# EAGLE library part EPF10K250-BGA600 (library altera)
EPF10K250 FLEX 10K family
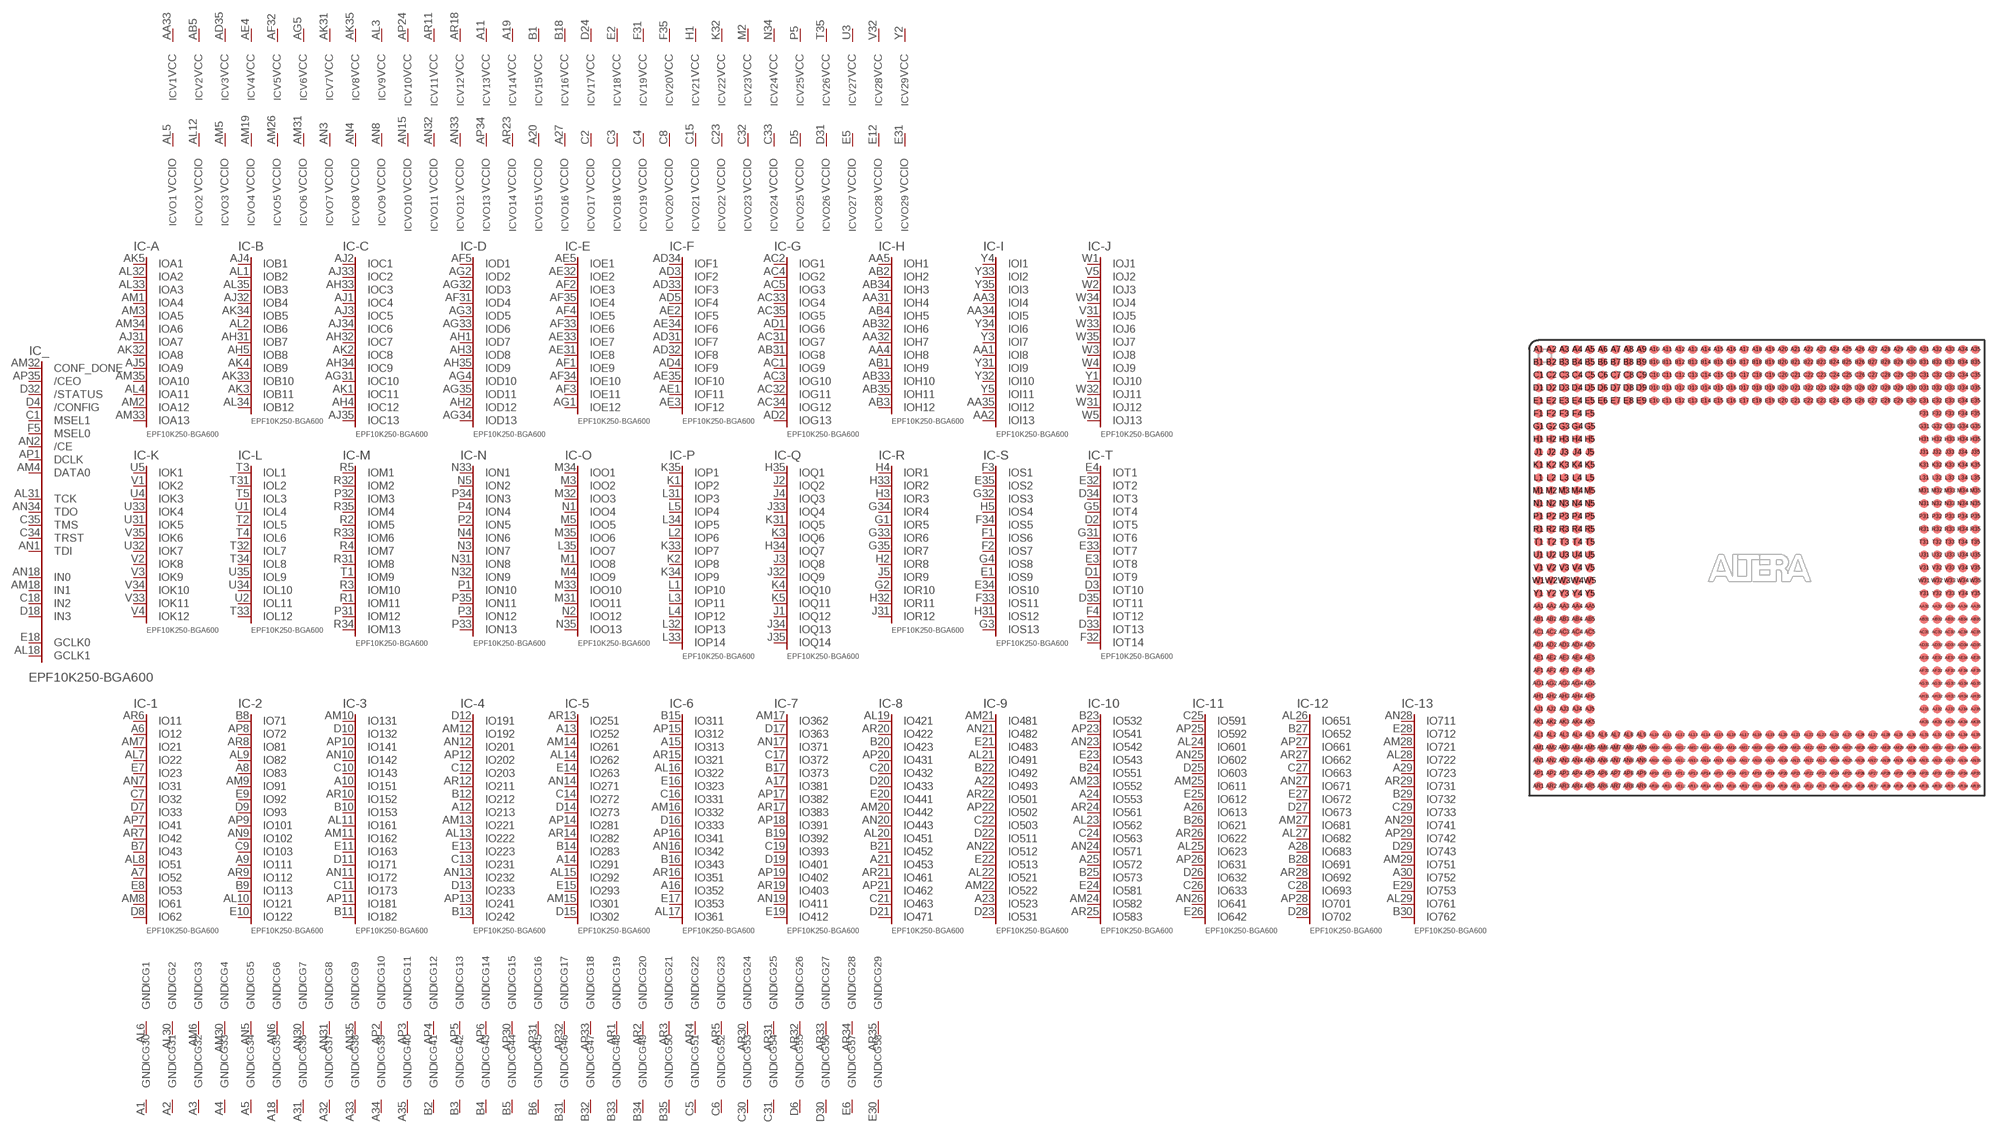
[diagram p32: symbol with the pads of BGA600; footprint BGA600]

Designator prefix IC; gates _=K240C -A=A13-600 -B=B12-600 -C=C13-600 -D=D13-600 -E=E12-600 -F=F12-600 -G=G13-600 -H=H12-600 -I=I13-600 -J=J13-600 -K=K12-600 -L=L12-600 -M=M13-600 -N=N13-600 -O=O13-600 -P=P14-600 -Q=Q14-600 -R=R12-600 -S=S13-600 -T=T14-600 -1=62-600 -2=122-600 -3=182-600 -4=242-600 -5=302-600 -6=361-600 -7=412-600 -8=471-600 -9=531-600 -10=583-600 -11=642-600 -12=702-600 -13=762-600 G1=GND G2=GND G3=GND G4=GND G5=GND G6=GND G7=GND G8=GND G9=GND G10=GND G11=GND G12=GND G13=GND G14=GND G15=GND G16=GND G17=GND G18=GND G19=GND G20=GND G21=GND G22=GND G23=GND G24=GND G25=GND G26=GND G27=GND G28=GND G29=GND G30=GND G31=GND G32=GND G33=GND G34=GND G35=GND G36=GND G37=GND G38=GND G39=GND G40=GND G41=GND G42=GND G43=GND G44=GND G45=GND G46=GND G47=GND G48=GND G49=GND G50=GND G51=GND G52=GND G53=GND G54=GND G55=GND G56=GND G57=GND G58=GND V1=VCCINT V2=VCCINT V3=VCCINT V4=VCCINT V5=VCCINT V6=VCCINT V7=VCCINT V8=VCCINT V9=VCCINT V10=VCCINT V11=VCCINT V12=VCCINT V13=VCCINT V14=VCCINT V15=VCCINT V16=VCCINT V17=VCCINT V18=VCCINT V19=VCCINT V20=VCCINT V21=VCCINT V22=VCCINT V23=VCCINT V24=VCCINT V25=VCCINT V26=VCCINT V27=VCCINT V28=VCCINT V29=VCCINT VO1=VCCIO VO2=VCCIO VO3=VCCIO VO4=VCCIO VO5=VCCIO VO6=VCCIO VO7=VCCIO VO8=VCCIO VO9=VCCIO VO10=VCCIO VO11=VCCIO VO12=VCCIO VO13=VCCIO VO14=VCCIO VO15=VCCIO VO16=VCCIO VO17=VCCIO VO18=VCCIO VO19=VCCIO VO20=VCCIO VO21=VCCIO VO22=VCCIO VO23=VCCIO VO24=VCCIO VO25=VCCIO VO26=VCCIO VO27=VCCIO VO28=VCCIO VO29=VCCIO

## EPF10K250-BGA600 (OC_FARNELL: unknown; OC_NEWARK: unknown)  [BGA600]
A1  G30:GND  pwr
A2  G31:GND  pwr
A3  G32:GND  pwr
A4  G33:GND  pwr
A5  G34:GND  pwr
A6  -1:IO12
A7  -1:IO52
A8  -2:IO83
A9  -2:IO111
A10  -3:IO151
A11  V13:VCC  pwr
A12  -4:IO213
A13  -5:IO252
A14  -5:IO291
A15  -6:IO313
A16  -6:IO352
A17  -7:IO381
A18  G35:GND  pwr
A19  V14:VCC  pwr
A20  VO15:VCCIO  pwr
A21  -8:IO453
A22  -9:IO493
A23  -9:IO523
A24  -10:IO553
A25  -10:IO572
A26  -11:IO613
A27  VO16:VCCIO  pwr
A28  -12:IO683
A29  -13:IO723
A30  -13:IO752
A31  G36:GND  pwr
A32  G37:GND  pwr
A33  G38:GND  pwr
A34  G39:GND  pwr
A35  G40:GND  pwr
AA1  -I:IOI8
AA2  -I:IOI13
AA3  -I:IOI4
AA4  -H:IOH8
AA5  -H:IOH1
AA31  -H:IOH4
AA32  -H:IOH7
AA33  V1:VCC  pwr
AA34  -I:IOI5
AA35  -I:IOI12
AB1  -H:IOH9
AB2  -H:IOH2
AB3  -H:IOH12
AB4  -H:IOH5
AB5  V2:VCC  pwr
AB31  -G:IOG8
AB32  -H:IOH6
AB33  -H:IOH10
AB34  -H:IOH3
AB35  -H:IOH11
AC1  -G:IOG9
AC2  -G:IOG1
AC3  -G:IOG10
AC4  -G:IOG2
AC5  -G:IOG3
AC31  -G:IOG7
AC32  -G:IOG11
AC33  -G:IOG4
AC34  -G:IOG12
AC35  -G:IOG5
AD1  -G:IOG6
AD2  -G:IOG13
AD3  -F:IOF2
AD4  -F:IOF9
AD5  -F:IOF4
AD31  -F:IOF7
AD32  -F:IOF8
AD33  -F:IOF3
AD34  -F:IOF1
AD35  V3:VCC  pwr
AE1  -F:IOF11
AE2  -F:IOF5
AE3  -F:IOF12
AE4  V4:VCC  pwr
AE5  -E:IOE1
AE31  -E:IOE8
AE32  -E:IOE2
AE33  -E:IOE7
AE34  -F:IOF6
AE35  -F:IOF10
AF1  -E:IOE9
AF2  -E:IOE3
AF3  -E:IOE11
AF4  -E:IOE5
AF5  -D:IOD1
AF31  -D:IOD4
AF32  V5:VCC  pwr
AF33  -E:IOE6
AF34  -E:IOE10
AF35  -E:IOE4
AG1  -E:IOE12
AG2  -D:IOD2
AG3  -D:IOD5
AG4  -D:IOD10
AG5  V6:VCC  pwr
AG31  -C:IOC10
AG32  -D:IOD3
AG33  -D:IOD6
AG34  -D:IOD13
AG35  -D:IOD11
AH1  -D:IOD7
AH2  -D:IOD12
AH3  -D:IOD8
AH4  -C:IOC12
AH5  -B:IOB8
AH31  -B:IOB7
AH32  -C:IOC7
AH33  -C:IOC3
AH34  -C:IOC9
AH35  -D:IOD9
AJ1  -C:IOC4
AJ2  -C:IOC1
AJ3  -C:IOC5
AJ4  -B:IOB1
AJ5  -A:IOA9
AJ31  -A:IOA7
AJ32  -B:IOB4
AJ33  -C:IOC2
AJ34  -C:IOC6
AJ35  -C:IOC13
AK1  -C:IOC11
AK2  -C:IOC8
AK3  -B:IOB11
AK4  -B:IOB9
AK5  -A:IOA1
AK31  V7:VCC  pwr
AK32  -A:IOA8
AK33  -B:IOB10
AK34  -B:IOB5
AK35  V8:VCC  pwr
AL1  -B:IOB2
AL2  -B:IOB6
AL3  V9:VCC  pwr
AL4  -A:IOA11
AL5  VO1:VCCIO  pwr
AL6  G1:GND  pwr
AL7  -1:IO22
AL8  -1:IO51
AL9  -2:IO82
AL10  -2:IO121
AL11  -3:IO161
AL12  VO2:VCCIO  pwr
AL13  -4:IO222
AL14  -5:IO262
AL15  -5:IO292
AL16  -6:IO322
AL17  -6:IO361
AL18  _:GCLK1  in
AL19  -8:IO421
AL20  -8:IO451
AL21  -9:IO491
AL22  -9:IO521
AL23  -10:IO562
AL24  -11:IO601
AL25  -11:IO623
AL26  -12:IO651
AL27  -12:IO682
AL28  -13:IO722
AL29  -13:IO761
AL30  G2:GND  pwr
AL31  _:TCK
AL32  -A:IOA2
AL33  -A:IOA3
AL34  -B:IOB12
AL35  -B:IOB3
AM1  -A:IOA4
AM2  -A:IOA12
AM3  -A:IOA5
AM4  _:DATA0  in
AM5  VO3:VCCIO  pwr
AM6  G3:GND  pwr
AM7  -1:IO21
AM8  -1:IO61
AM9  -2:IO91
AM10  -3:IO131
AM11  -3:IO162
AM12  -4:IO192
AM13  -4:IO221
AM14  -5:IO261
AM15  -5:IO301
AM16  -6:IO332
AM17  -7:IO362
AM18  _:IN1  in
AM19  VO4:VCCIO  pwr
AM20  -8:IO442
AM21  -9:IO481
AM22  -9:IO522
AM23  -10:IO552
AM24  -10:IO582
AM25  -11:IO611
AM26  VO5:VCCIO  pwr
AM27  -12:IO681
AM28  -13:IO721
AM29  -13:IO751
AM30  G4:GND  pwr
AM31  VO6:VCCIO  pwr
AM32  _:CONF_DONE  in
AM33  -A:IOA13
AM34  -A:IOA6
AM35  -A:IOA10
AN1  _:TDI
AN2  _:/CE  in
AN3  VO7:VCCIO  pwr
AN4  VO8:VCCIO  pwr
AN5  G5:GND  pwr
AN6  G6:GND  pwr
AN7  -1:IO31
AN8  VO9:VCCIO  pwr
AN9  -2:IO102
AN10  -3:IO142
AN11  -3:IO172
AN12  -4:IO201
AN13  -4:IO232
AN14  -5:IO271
AN15  VO10:VCCIO  pwr
AN16  -6:IO342
AN17  -7:IO371
AN18  _:IN0  in
AN19  -7:IO411
AN20  -8:IO443
AN21  -9:IO482
AN22  -9:IO512
AN23  -10:IO542
AN24  -10:IO571
AN25  -11:IO602
AN26  -11:IO641
AN27  -12:IO671
AN28  -13:IO711
AN29  -13:IO741
AN30  G7:GND  pwr
AN31  G8:GND  pwr
AN32  VO11:VCCIO  pwr
AN33  VO12:VCCIO  pwr
AN34  _:TDO
AN35  G9:GND  pwr
AP1  _:DCLK  in
AP2  G10:GND  pwr
AP3  G11:GND  pwr
AP4  G12:GND  pwr
AP5  G13:GND  pwr
AP6  G14:GND  pwr
AP7  -1:IO41
AP8  -2:IO72
AP9  -2:IO101
AP10  -3:IO141
AP11  -3:IO181
AP12  -4:IO202
AP13  -4:IO241
AP14  -5:IO281
AP15  -6:IO312
AP16  -6:IO341
AP17  -7:IO382
AP18  -7:IO391
AP19  -7:IO402
AP20  -8:IO431
AP21  -8:IO462
AP22  -9:IO502
AP23  -10:IO541
AP24  V10:VCC  pwr
AP25  -11:IO592
AP26  -11:IO631
AP27  -12:IO661
AP28  -12:IO701
AP29  -13:IO742
AP30  G15:GND  pwr
AP31  G16:GND  pwr
AP32  G17:GND  pwr
AP33  G18:GND  pwr
AP34  VO13:VCCIO  pwr
AP35  _:/CEO  in
AR1  G19:GND  pwr
AR2  G20:GND  pwr
AR3  G21:GND  pwr
AR4  G22:GND  pwr
AR5  G23:GND  pwr
AR6  -1:IO11
AR7  -1:IO42
AR8  -2:IO81
AR9  -2:IO112
AR10  -3:IO152
AR11  V11:VCC  pwr
AR12  -4:IO211
AR13  -5:IO251
AR14  -5:IO282
AR15  -6:IO321
AR16  -6:IO351
AR17  -7:IO383
AR18  V12:VCC  pwr
AR19  -7:IO403
AR20  -8:IO422
AR21  -8:IO461
AR22  -9:IO501
AR23  VO14:VCCIO  pwr
AR24  -10:IO561
AR25  -10:IO583
AR26  -11:IO622
AR27  -12:IO662
AR28  -12:IO692
AR29  -13:IO731
AR30  G24:GND  pwr
AR31  G25:GND  pwr
AR32  G26:GND  pwr
AR33  G27:GND  pwr
AR34  G28:GND  pwr
AR35  G29:GND  pwr
B1  V15:VCC  pwr
B2  G41:GND  pwr
B3  G42:GND  pwr
B4  G43:GND  pwr
B5  G44:GND  pwr
B6  G45:GND  pwr
B7  -1:IO43
B8  -2:IO71
B9  -2:IO113
B10  -3:IO153
B11  -3:IO182
B12  -4:IO212
B13  -4:IO242
B14  -5:IO283
B15  -6:IO311
B16  -6:IO343
B17  -7:IO373
B18  V16:VCC  pwr
B19  -7:IO392
B20  -8:IO423
B21  -8:IO452
B22  -9:IO492
B23  -10:IO532
B24  -10:IO551
B25  -10:IO573
B26  -11:IO621
B27  -12:IO652
B28  -12:IO691
B29  -13:IO732
B30  -13:IO762
B31  G46:GND  pwr
B32  G47:GND  pwr
B33  G48:GND  pwr
B34  G49:GND  pwr
B35  G50:GND  pwr
C1  _:MSEL1  in
C2  VO17:VCCIO  pwr
C3  VO18:VCCIO  pwr
C4  VO19:VCCIO  pwr
C5  G51:GND  pwr
C6  G52:GND  pwr
C7  -1:IO32
C8  VO20:VCCIO  pwr
C9  -2:IO103
C10  -3:IO143
C11  -3:IO173
C12  -4:IO203
C13  -4:IO231
C14  -5:IO272
C15  VO21:VCCIO  pwr
C16  -6:IO331
C17  -7:IO372
C18  _:IN2  in
C19  -7:IO393
C20  -8:IO432
C21  -8:IO463
C22  -9:IO503
C23  VO22:VCCIO  pwr
C24  -10:IO563
C25  -11:IO591
C26  -11:IO633
C27  -12:IO663
C28  -12:IO693
C29  -13:IO733
C30  G53:GND  pwr
C31  G54:GND  pwr
C32  VO23:VCCIO  pwr
C33  VO24:VCCIO  pwr
C34  _:TRST
C35  _:TMS
D1  -T:IOT9
D2  -T:IOT5
D3  -T:IOT10
D4  _:/CONFIG  in
D5  VO25:VCCIO  pwr
D6  G55:GND  pwr
D7  -1:IO33
D8  -1:IO62
D9  -2:IO93
D10  -3:IO132
D11  -3:IO171
D12  -4:IO191
D13  -4:IO233
D14  -5:IO273
D15  -5:IO302
D16  -6:IO333
D17  -7:IO363
D18  _:IN3  in
D19  -7:IO401
D20  -8:IO433
D21  -8:IO471
D22  -9:IO511
D23  -9:IO531
D24  V17:VCC  pwr
D25  -11:IO603
D26  -11:IO632
D27  -12:IO673
D28  -12:IO702
D29  -13:IO743
D30  G56:GND  pwr
D31  VO26:VCCIO  pwr
D32  _:/STATUS  in
D33  -T:IOT13
D34  -T:IOT3
D35  -T:IOT11
E1  -S:IOS9
E2  V18:VCC  pwr
E3  -T:IOT8
E4  -T:IOT1
E5  VO27:VCCIO  pwr
E6  G57:GND  pwr
E7  -1:IO23
E8  -1:IO53
E9  -2:IO92
E10  -2:IO122
E11  -3:IO163
E12  VO28:VCCIO  pwr
E13  -4:IO223
E14  -5:IO263
E15  -5:IO293
E16  -6:IO323
E17  -6:IO353
E18  _:GCLK0  in
E19  -7:IO412
E20  -8:IO441
E21  -9:IO483
E22  -9:IO513
E23  -10:IO543
E24  -10:IO581
E25  -11:IO612
E26  -11:IO642
E27  -12:IO672
E28  -13:IO712
E29  -13:IO753
E30  G58:GND  pwr
E31  VO29:VCCIO  pwr
E32  -T:IOT2
E33  -T:IOT7
E34  -S:IOS10
E35  -S:IOS2
F1  -S:IOS6
F2  -S:IOS7
F3  -S:IOS1
F4  -T:IOT12
F5  _:MSEL0  in
F31  V19:VCC  pwr
F32  -T:IOT14
F33  -S:IOS11
F34  -S:IOS5
F35  V20:VCC  pwr
G1  -R:IOR5
G2  -R:IOR10
G3  -S:IOS13
G4  -S:IOS8
G5  -T:IOT4
G31  -T:IOT6
G32  -S:IOS3
G33  -R:IOR6
G34  -R:IOR4
G35  -R:IOR7
H1  V21:VCC  pwr
H2  -R:IOR8
H3  -R:IOR3
H4  -R:IOR1
H5  -S:IOS4
H31  -S:IOS12
H32  -R:IOR11
H33  -R:IOR2
H34  -Q:IOQ7
H35  -Q:IOQ1
J1  -Q:IOQ12
J2  -Q:IOQ2
J3  -Q:IOQ8
J4  -Q:IOQ3
J5  -R:IOR9
J31  -R:IOR12
J32  -Q:IOQ9
J33  -Q:IOQ4
J34  -Q:IOQ13
J35  -Q:IOQ14
K1  -P:IOP2
K2  -P:IOP8
K3  -Q:IOQ6
K4  -Q:IOQ10
K5  -Q:IOQ11
K31  -Q:IOQ5
K32  V22:VCC  pwr
K33  -P:IOP7
K34  -P:IOP9
K35  -P:IOP1
L1  -P:IOP10
L2  -P:IOP6
L3  -P:IOP11
L4  -P:IOP12
L5  -P:IOP4
L31  -P:IOP3
L32  -P:IOP13
L33  -P:IOP14
L34  -P:IOP5
L35  -O:IOO7
M1  -O:IOO8
M2  V23:VCC  pwr
M3  -O:IOO2
M4  -O:IOO9
M5  -O:IOO5
M31  -O:IOO11
M32  -O:IOO3
M33  -O:IOO10
M34  -O:IOO1
M35  -O:IOO6
N1  -O:IOO4
N2  -O:IOO12
N3  -N:ION7
N4  -N:ION6
N5  -N:ION2
N31  -N:ION8
N32  -N:ION9
N33  -N:ION1
N34  V24:VCC  pwr
N35  -O:IOO13
P1  -N:ION10
P2  -N:ION5
P3  -N:ION12
P4  -N:ION4
P5  V25:VCC  pwr
P31  -M:IOM12
P32  -M:IOM3
P33  -N:ION13
P34  -N:ION3
P35  -N:ION11
R1  -M:IOM11
R2  -M:IOM5
R3  -M:IOM10
R4  -M:IOM7
R5  -M:IOM1
R31  -M:IOM8
R32  -M:IOM2
R33  -M:IOM6
R34  -M:IOM13
R35  -M:IOM4
T1  -M:IOM9
T2  -L:IOL5
T3  -L:IOL1
T4  -L:IOL6
T5  -L:IOL3
T31  -L:IOL2
T32  -L:IOL7
T33  -L:IOL12
T34  -L:IOL8
T35  V26:VCC  pwr
U1  -L:IOL4
U2  -L:IOL11
U3  V27:VCC  pwr
U4  -K:IOK3
U5  -K:IOK1
U31  -K:IOK5
U32  -K:IOK7
U33  -K:IOK4
U34  -L:IOL10
U35  -L:IOL9
V1  -K:IOK2
V2  -K:IOK8
V3  -K:IOK9
V4  -K:IOK12
V5  -J:IOJ2
V31  -J:IOJ5
V32  V28:VCC  pwr
V33  -K:IOK11
V34  -K:IOK10
V35  -K:IOK6
W1  -J:IOJ1
W2  -J:IOJ3
W3  -J:IOJ8
W4  -J:IOJ9
W5  -J:IOJ13
W31  -J:IOJ12
W32  -J:IOJ11
W33  -J:IOJ6
W34  -J:IOJ4
W35  -J:IOJ7
Y1  -J:IOJ10
Y2  V29:VCC  pwr
Y3  -I:IOI7
Y4  -I:IOI1
Y5  -I:IOI11
Y31  -I:IOI9
Y32  -I:IOI10
Y33  -I:IOI2
Y34  -I:IOI6
Y35  -I:IOI3

## Footprint BGA600 (pad centres in mm)
Ball Grid Array
smd 0.9 x 0.9: A1 -21.59,21.59; A2 -20.32,21.59; A3 -19.05,21.59; A4 -17.78,21.59; A5 -16.51,21.59; A6 -15.24,21.59; A7 -13.97,21.59; A8 -12.7,21.59; A9 -11.43,21.59; A10 -10.16,21.59; A11 -8.89,21.59; A12 -7.62,21.59; A13 -6.35,21.59; A14 -5.08,21.59; A15 -3.81,21.59; A16 -2.54,21.59; A17 -1.27,21.59; A18 0,21.59; A19 1.27,21.59; A20 2.54,21.59; A21 3.81,21.59; A22 5.08,21.59; A23 6.35,21.59; A24 7.62,21.59; A25 8.89,21.59; A26 10.16,21.59; A27 11.43,21.59; A28 12.7,21.59; A29 13.97,21.59; A30 15.24,21.59; A31 16.51,21.59; A32 17.78,21.59; A33 19.05,21.59; A34 20.32,21.59; A35 21.59,21.59; AA1 -21.59,-3.81; AA2 -20.32,-3.81; AA3 -19.05,-3.81; AA4 -17.78,-3.81; AA5 -16.51,-3.81; AA31 16.51,-3.81; AA32 17.78,-3.81; AA33 19.05,-3.81; AA34 20.32,-3.81; AA35 21.59,-3.81; AB1 -21.59,-5.08; AB2 -20.32,-5.08; AB3 -19.05,-5.08; AB4 -17.78,-5.08; AB5 -16.51,-5.08; AB31 16.51,-5.08; AB32 17.78,-5.08; AB33 19.05,-5.08; AB34 20.32,-5.08; AB35 21.59,-5.08; AC1 -21.59,-6.35; AC2 -20.32,-6.35; AC3 -19.05,-6.35; AC4 -17.78,-6.35; AC5 -16.51,-6.35; AC31 16.51,-6.35; AC32 17.78,-6.35; AC33 19.05,-6.35; AC34 20.32,-6.35; AC35 21.59,-6.35; AD1 -21.59,-7.62; AD2 -20.32,-7.62; AD3 -19.05,-7.62; AD4 -17.78,-7.62; AD5 -16.51,-7.62; AD31 16.51,-7.62; AD32 17.78,-7.62; AD33 19.05,-7.62; AD34 20.32,-7.62; AD35 21.59,-7.62; AE1 -21.59,-8.89; AE2 -20.32,-8.89; AE3 -19.05,-8.89; AE4 -17.78,-8.89; AE5 -16.51,-8.89; AE31 16.51,-8.89; AE32 17.78,-8.89; AE33 19.05,-8.89; AE34 20.32,-8.89; AE35 21.59,-8.89; AF1 -21.59,-10.16; AF2 -20.32,-10.16; AF3 -19.05,-10.16; AF4 -17.78,-10.16; AF5 -16.51,-10.16; AF31 16.51,-10.16; AF32 17.78,-10.16; AF33 19.05,-10.16; AF34 20.32,-10.16; AF35 21.59,-10.16; AG1 -21.59,-11.43; AG2 -20.32,-11.43; AG3 -19.05,-11.43; AG4 -17.78,-11.43; AG5 -16.51,-11.43; AG31 16.51,-11.43; AG32 17.78,-11.43; AG33 19.05,-11.43; AG34 20.32,-11.43; AG35 21.59,-11.43; AH1 -21.59,-12.7; AH2 -20.32,-12.7; AH3 -19.05,-12.7; AH4 -17.78,-12.7; AH5 -16.51,-12.7; AH31 16.51,-12.7; AH32 17.78,-12.7; AH33 19.05,-12.7; AH34 20.32,-12.7; AH35 21.59,-12.7; AJ1 -21.59,-13.97; AJ2 -20.32,-13.97; AJ3 -19.05,-13.97; AJ4 -17.78,-13.97; AJ5 -16.51,-13.97; AJ31 16.51,-13.97; AJ32 17.78,-13.97; AJ33 19.05,-13.97; AJ34 20.32,-13.97; AJ35 21.59,-13.97; AK1 -21.59,-15.24; AK2 -20.32,-15.24; AK3 -19.05,-15.24; AK4 -17.78,-15.24; AK5 -16.51,-15.24; AK31 16.51,-15.24; AK32 17.78,-15.24; AK33 19.05,-15.24; AK34 20.32,-15.24; AK35 21.59,-15.24; AL1 -21.59,-16.51; AL2 -20.32,-16.51; AL3 -19.05,-16.51; AL4 -17.78,-16.51; AL5 -16.51,-16.51; AL6 -15.24,-16.51; AL7 -13.97,-16.51; AL8 -12.7,-16.51; AL9 -11.43,-16.51; AL10 -10.16,-16.51; AL11 -8.89,-16.51; AL12 -7.62,-16.51; AL13 -6.35,-16.51; AL14 -5.08,-16.51; AL15 -3.81,-16.51; AL16 -2.54,-16.51; AL17 -1.27,-16.51; AL18 0,-16.51; AL19 1.27,-16.51; AL20 2.54,-16.51; AL21 3.81,-16.51; AL22 5.08,-16.51; AL23 6.35,-16.51; AL24 7.62,-16.51; AL25 8.89,-16.51; AL26 10.16,-16.51; AL27 11.43,-16.51; AL28 12.7,-16.51; AL29 13.97,-16.51; AL30 15.24,-16.51; AL31 16.51,-16.51; AL32 17.78,-16.51; AL33 19.05,-16.51; AL34 20.32,-16.51; AL35 21.59,-16.51; AM1 -21.59,-17.78; AM2 -20.32,-17.78; AM3 -19.05,-17.78; AM4 -17.78,-17.78; AM5 -16.51,-17.78; AM6 -15.24,-17.78; AM7 -13.97,-17.78; AM8 -12.7,-17.78; AM9 -11.43,-17.78; AM10 -10.16,-17.78; AM11 -8.89,-17.78; AM12 -7.62,-17.78; AM13 -6.35,-17.78; AM14 -5.08,-17.78; AM15 -3.81,-17.78; AM16 -2.54,-17.78; AM17 -1.27,-17.78; AM18 0,-17.78; AM19 1.27,-17.78; AM20 2.54,-17.78; AM21 3.81,-17.78; AM22 5.08,-17.78; AM23 6.35,-17.78; AM24 7.62,-17.78; AM25 8.89,-17.78; AM26 10.16,-17.78; AM27 11.43,-17.78; AM28 12.7,-17.78; AM29 13.97,-17.78; AM30 15.24,-17.78; AM31 16.51,-17.78; AM32 17.78,-17.78; AM33 19.05,-17.78; AM34 20.32,-17.78; AM35 21.59,-17.78; AN1 -21.59,-19.05; AN2 -20.32,-19.05; AN3 -19.05,-19.05; AN4 -17.78,-19.05; AN5 -16.51,-19.05; AN6 -15.24,-19.05; AN7 -13.97,-19.05; AN8 -12.7,-19.05; AN9 -11.43,-19.05; AN10 -10.16,-19.05; AN11 -8.89,-19.05; AN12 -7.62,-19.05; AN13 -6.35,-19.05; AN14 -5.08,-19.05; AN15 -3.81,-19.05; AN16 -2.54,-19.05; AN17 -1.27,-19.05; AN18 0,-19.05; AN19 1.27,-19.05; AN20 2.54,-19.05; AN21 3.81,-19.05; AN22 5.08,-19.05; AN23 6.35,-19.05; AN24 7.62,-19.05; AN25 8.89,-19.05; AN26 10.16,-19.05; AN27 11.43,-19.05; AN28 12.7,-19.05; AN29 13.97,-19.05; AN30 15.24,-19.05; AN31 16.51,-19.05; AN32 17.78,-19.05; AN33 19.05,-19.05; AN34 20.32,-19.05; AN35 21.59,-19.05; AP1 -21.59,-20.32; AP2 -20.32,-20.32; AP3 -19.05,-20.32; AP4 -17.78,-20.32; AP5 -16.51,-20.32; AP6 -15.24,-20.32; AP7 -13.97,-20.32; AP8 -12.7,-20.32; AP9 -11.43,-20.32; AP10 -10.16,-20.32; AP11 -8.89,-20.32; AP12 -7.62,-20.32; AP13 -6.35,-20.32; AP14 -5.08,-20.32; AP15 -3.81,-20.32; AP16 -2.54,-20.32; AP17 -1.27,-20.32; AP18 0,-20.32; AP19 1.27,-20.32; AP20 2.54,-20.32; AP21 3.81,-20.32; AP22 5.08,-20.32; AP23 6.35,-20.32; AP24 7.62,-20.32; AP25 8.89,-20.32; AP26 10.16,-20.32; AP27 11.43,-20.32; AP28 12.7,-20.32; AP29 13.97,-20.32; AP30 15.24,-20.32; AP31 16.51,-20.32; AP32 17.78,-20.32; AP33 19.05,-20.32; AP34 20.32,-20.32; AP35 21.59,-20.32; AR1 -21.59,-21.59; AR2 -20.32,-21.59; AR3 -19.05,-21.59; AR4 -17.78,-21.59; AR5 -16.51,-21.59; AR6 -15.24,-21.59; AR7 -13.97,-21.59; AR8 -12.7,-21.59; AR9 -11.43,-21.59; AR10 -10.16,-21.59; AR11 -8.89,-21.59; AR12 -7.62,-21.59; AR13 -6.35,-21.59; AR14 -5.08,-21.59; AR15 -3.81,-21.59; AR16 -2.54,-21.59; AR17 -1.27,-21.59; AR18 0,-21.59; AR19 1.27,-21.59; AR20 2.54,-21.59; AR21 3.81,-21.59; AR22 5.08,-21.59; AR23 6.35,-21.59; AR24 7.62,-21.59; AR25 8.89,-21.59; AR26 10.16,-21.59; AR27 11.43,-21.59; AR28 12.7,-21.59; AR29 13.97,-21.59; AR30 15.24,-21.59; AR31 16.51,-21.59; AR32 17.78,-21.59; AR33 19.05,-21.59; AR34 20.32,-21.59; AR35 21.59,-21.59; B1 -21.59,20.32; B2 -20.32,20.32; B3 -19.05,20.32; B4 -17.78,20.32; B5 -16.51,20.32; B6 -15.24,20.32; B7 -13.97,20.32; B8 -12.7,20.32; B9 -11.43,20.32; B10 -10.16,20.32; B11 -8.89,20.32; B12 -7.62,20.32; B13 -6.35,20.32; B14 -5.08,20.32; B15 -3.81,20.32; B16 -2.54,20.32; B17 -1.27,20.32; B18 0,20.32; B19 1.27,20.32; B20 2.54,20.32; B21 3.81,20.32; B22 5.08,20.32; B23 6.35,20.32; B24 7.62,20.32; B25 8.89,20.32; B26 10.16,20.32; B27 11.43,20.32; B28 12.7,20.32; B29 13.97,20.32; B30 15.24,20.32; B31 16.51,20.32; B32 17.78,20.32; B33 19.05,20.32; B34 20.32,20.32; B35 21.59,20.32; C1 -21.59,19.05; C2 -20.32,19.05; C3 -19.05,19.05; C4 -17.78,19.05; C5 -16.51,19.05; C6 -15.24,19.05; C7 -13.97,19.05; C8 -12.7,19.05; C9 -11.43,19.05; C10 -10.16,19.05; C11 -8.89,19.05; C12 -7.62,19.05; C13 -6.35,19.05; C14 -5.08,19.05; C15 -3.81,19.05; C16 -2.54,19.05; C17 -1.27,19.05; C18 0,19.05; C19 1.27,19.05; C20 2.54,19.05; C21 3.81,19.05; C22 5.08,19.05; C23 6.35,19.05; C24 7.62,19.05; C25 8.89,19.05; C26 10.16,19.05; C27 11.43,19.05; C28 12.7,19.05; C29 13.97,19.05; C30 15.24,19.05; C31 16.51,19.05; C32 17.78,19.05; C33 19.05,19.05; C34 20.32,19.05; C35 21.59,19.05; D1 -21.59,17.78; D2 -20.32,17.78; D3 -19.05,17.78; D4 -17.78,17.78; D5 -16.51,17.78; D6 -15.24,17.78; D7 -13.97,17.78; D8 -12.7,17.78; D9 -11.43,17.78; D10 -10.16,17.78; D11 -8.89,17.78; D12 -7.62,17.78; D13 -6.35,17.78; D14 -5.08,17.78; D15 -3.81,17.78; D16 -2.54,17.78; D17 -1.27,17.78; D18 0,17.78; D19 1.27,17.78; D20 2.54,17.78; D21 3.81,17.78; D22 5.08,17.78; D23 6.35,17.78; D24 7.62,17.78; D25 8.89,17.78; D26 10.16,17.78; D27 11.43,17.78; D28 12.7,17.78; D29 13.97,17.78; D30 15.24,17.78; D31 16.51,17.78; D32 17.78,17.78; D33 19.05,17.78; D34 20.32,17.78; D35 21.59,17.78; E1 -21.59,16.51; E2 -20.32,16.51; E3 -19.05,16.51; E4 -17.78,16.51; E5 -16.51,16.51; E6 -15.24,16.51; E7 -13.97,16.51; E8 -12.7,16.51; E9 -11.43,16.51; E10 -10.16,16.51; E11 -8.89,16.51; E12 -7.62,16.51; E13 -6.35,16.51; E14 -5.08,16.51; E15 -3.81,16.51; E16 -2.54,16.51; E17 -1.27,16.51; E18 0,16.51; E19 1.27,16.51; E20 2.54,16.51; E21 3.81,16.51; E22 5.08,16.51; E23 6.35,16.51; E24 7.62,16.51; E25 8.89,16.51; E26 10.16,16.51; E27 11.43,16.51; E28 12.7,16.51; E29 13.97,16.51; E30 15.24,16.51; E31 16.51,16.51; E32 17.78,16.51; E33 19.05,16.51; E34 20.32,16.51; E35 21.59,16.51; F1 -21.59,15.24; F2 -20.32,15.24; F3 -19.05,15.24; F4 -17.78,15.24; F5 -16.51,15.24; F31 16.51,15.24; F32 17.78,15.24; F33 19.05,15.24; F34 20.32,15.24; F35 21.59,15.24; G1 -21.59,13.97; G2 -20.32,13.97; G3 -19.05,13.97; G4 -17.78,13.97; G5 -16.51,13.97; G31 16.51,13.97; G32 17.78,13.97; G33 19.05,13.97; G34 20.32,13.97; G35 21.59,13.97; H1 -21.59,12.7; H2 -20.32,12.7; H3 -19.05,12.7; H4 -17.78,12.7; H5 -16.51,12.7; H31 16.51,12.7; H32 17.78,12.7; H33 19.05,12.7; H34 20.32,12.7; H35 21.59,12.7; J1 -21.59,11.43; J2 -20.32,11.43; J3 -19.05,11.43; J4 -17.78,11.43; J5 -16.51,11.43; J31 16.51,11.43; J32 17.78,11.43; J33 19.05,11.43; J34 20.32,11.43; J35 21.59,11.43; K1 -21.59,10.16; K2 -20.32,10.16; K3 -19.05,10.16; K4 -17.78,10.16; K5 -16.51,10.16; K31 16.51,10.16; K32 17.78,10.16; K33 19.05,10.16; K34 20.32,10.16; K35 21.59,10.16; L1 -21.59,8.89; L2 -20.32,8.89; L3 -19.05,8.89; L4 -17.78,8.89; L5 -16.51,8.89; L31 16.51,8.89; L32 17.78,8.89; L33 19.05,8.89; L34 20.32,8.89; L35 21.59,8.89; M1 -21.59,7.62; M2 -20.32,7.62; M3 -19.05,7.62; M4 -17.78,7.62; M5 -16.51,7.62; M31 16.51,7.62; M32 17.78,7.62; M33 19.05,7.62; M34 20.32,7.62; M35 21.59,7.62; N1 -21.59,6.35; N2 -20.32,6.35; N3 -19.05,6.35; N4 -17.78,6.35; N5 -16.51,6.35; N31 16.51,6.35; N32 17.78,6.35; N33 19.05,6.35; N34 20.32,6.35; N35 21.59,6.35; P1 -21.59,5.08; P2 -20.32,5.08; P3 -19.05,5.08; P4 -17.78,5.08; P5 -16.51,5.08; P31 16.51,5.08; P32 17.78,5.08; P33 19.05,5.08; P34 20.32,5.08; P35 21.59,5.08; R1 -21.59,3.81; R2 -20.32,3.81; R3 -19.05,3.81; R4 -17.78,3.81; R5 -16.51,3.81; R31 16.51,3.81; R32 17.78,3.81; R33 19.05,3.81; R34 20.32,3.81; R35 21.59,3.81; T1 -21.59,2.54; T2 -20.32,2.54; T3 -19.05,2.54; T4 -17.78,2.54; T5 -16.51,2.54; T31 16.51,2.54; T32 17.78,2.54; T33 19.05,2.54; T34 20.32,2.54; T35 21.59,2.54; U1 -21.59,1.27; U2 -20.32,1.27; U3 -19.05,1.27; U4 -17.78,1.27; U5 -16.51,1.27; U31 16.51,1.27; U32 17.78,1.27; U33 19.05,1.27; U34 20.32,1.27; U35 21.59,1.27; V1 -21.59,0; V2 -20.32,0; V3 -19.05,0; V4 -17.78,0; V5 -16.51,0; V31 16.51,0; V32 17.78,0; V33 19.05,0; V34 20.32,0; V35 21.59,0; W1 -21.59,-1.27; W2 -20.32,-1.27; W3 -19.05,-1.27; W4 -17.78,-1.27; W5 -16.51,-1.27; W31 16.51,-1.27; W32 17.78,-1.27; W33 19.05,-1.27; W34 20.32,-1.27; W35 21.59,-1.27; Y1 -21.59,-2.54; Y2 -20.32,-2.54; Y3 -19.05,-2.54; Y4 -17.78,-2.54; Y5 -16.51,-2.54; Y31 16.51,-2.54; Y32 17.78,-2.54; Y33 19.05,-2.54; Y34 20.32,-2.54; Y35 21.59,-2.54